# Altium footprint library attenuator_v2.PcbLib: 8 footprints
Each footprint in its own frame and in the unit in brackets; x right, y up, seen from the top. Pads: shape width x height; smd on the part's side, far side on the other; paste and mask are expansions set on the pad; w line width, h text height; cw(c..) or ccw(c..) is an arc to the next point about the centre after c.
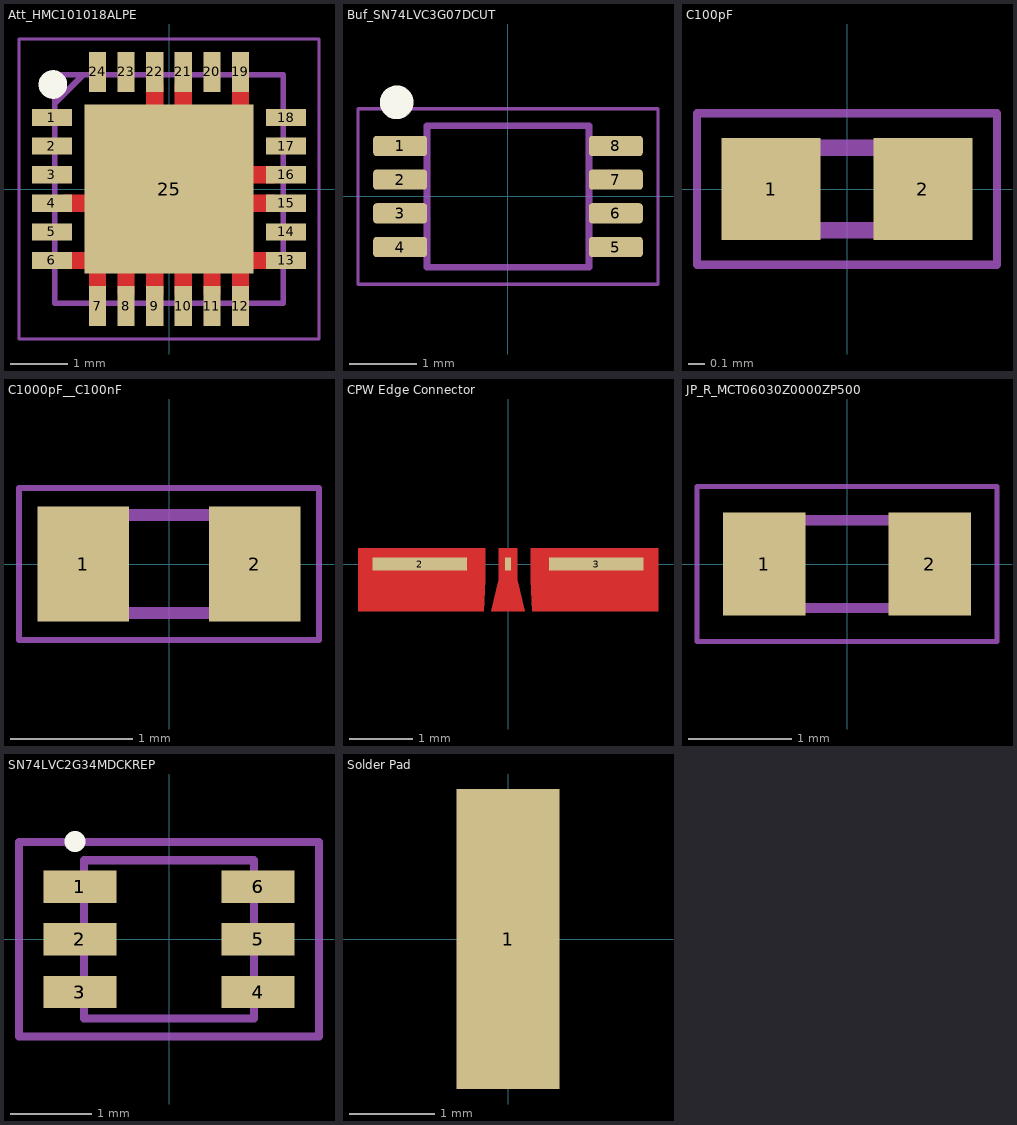
[diagram p0: the footprints below, top view; thin cyan lines are the x and y axes]

## Att_HMC101018ALPE [mm]
pads (25):
  rect 0.7x0.3 smd: 1(-2.05,1.25) 2(-2.05,0.75) 3(-2.05,0.25) 4(-2.05,-0.25) 5(-2.05,-0.75) 6(-2.05,-1.25) 13(2.05,-1.25) 14(2.05,-0.75) 15(2.05,-0.25) 16(2.05,0.25) 17(2.05,0.75) 18(2.05,1.25)
  rect 0.3x0.7 smd: 7(-1.25,-2.05) 8(-0.75,-2.05) 9(-0.25,-2.05) 10(0.25,-2.05) 11(0.75,-2.05) 12(1.25,-2.05) 19(1.25,2.05) 20(0.75,2.05) 21(0.25,2.05) 22(-0.25,2.05) 23(-0.75,2.05) 24(-1.25,2.05)
  rect 2.95x2.95 smd: 25(0,0)
Top Layer:
  rectangle: -1.85,-1.4 -1.35,-1.1
  rectangle: 1.35,0.1 1.85,0.4
  region: 1.4,1.35 1.4,1.85 1.1,1.85 1.1,1.35
  rectangle: 1.35,-1.4 1.85,-1.1
  region: -0.6,-1.85 -0.6,-1.35 -0.9,-1.35 -0.9,-1.85
  region: -0.1,1.35 -0.1,1.85 -0.4,1.85 -0.4,1.35
  region: 0.4,1.35 0.4,1.85 0.1,1.85 0.1,1.35
  region: 1.4,-1.85 1.4,-1.35 1.1,-1.35 1.1,-1.85
  region: 0.9,-1.85 0.9,-1.35 0.6,-1.35 0.6,-1.85
  region: 0.4,-1.85 0.4,-1.35 0.1,-1.35 0.1,-1.85
  region: -0.1,-1.85 -0.1,-1.35 -0.4,-1.35 -0.4,-1.85
  region: -1.1,-1.85 -1.1,-1.35 -1.4,-1.35 -1.4,-1.85
  rectangle: 1.35,-0.4 1.85,-0.1
  rectangle: -1.85,-0.4 -1.35,-0.1
Top Overlay:
  circle w0.25: c-2.032,1.829 r0.125
Top Assembly:
  lines w0.05: -2.625,-2.625 2.625,-2.625 2.625,2.625 -2.625,2.625 -2.625,-2.625
  lines w0.1: -2,1.5 -1.5,2 ; -2,-2 2,-2 2,2 -2,2 -2,-2
  text ".Designator" at -3.997,-0.28 h0.8
3D body "HMC1018ALP4E.stp": height 1, standoff 0, extent -2.05,-2.05 2.05,2.05

## Buf_SN74LVC3G07DCUT [mm] "SOP, 8-Leads, Body 2.4x2.1mm, Pitch 0.5mm, IPC Medium Density"
height 0.9
pads (8):
  rrect33% 0.8x0.3 smd: 1(-1.6,0.75) 2(-1.6,0.25) 3(-1.6,-0.25) 4(-1.6,-0.75) 5(1.6,-0.75) 6(1.6,-0.25) 7(1.6,0.25) 8(1.6,0.75)
Top Overlay:
  circle w0.25: c-1.651,1.397 r0.125
Top Assembly:
  lines w0.05: -2.225,-1.3 -2.225,1.3 2.225,1.3 2.225,-1.3 -2.225,-1.3
  lines w0.1: -1.2,-1.05 -1.2,1.05 1.2,1.05 1.2,-1.05 -1.2,-1.05
  text ".Designator" at -2.54,-0.127 h0.5
3D body "DCU0008A.stp": height 0.9, standoff 0, extent -1.561,-1 1.561,1

## C100pF [mm]
pads (2):
  rect 0.6x0.62 smd: 1(-0.46,0) 2(0.46,0)
Top Assembly:
  lines w0.05: -0.91,-0.46 -0.91,0.46 0.91,0.46 0.91,-0.46 -0.91,-0.46
  lines w0.1: -0.5,-0.25 -0.5,0.25 0.5,0.25 0.5,-0.25 -0.5,-0.25
  text ".Designator" at -1.999,-0.133 h0.4
3D body "C100pF.stp": height 0.55, standoff 0, extent -0.5,-0.25 0.5,0.25

## C1000pF__C100nF [mm]
pads (2):
  rect 0.75x0.94 smd: 1(-0.7,0) 2(0.7,0)
Top Assembly:
  lines w0.05: -1.225,-0.62 -1.225,0.62 1.225,0.62 1.225,-0.62 -1.225,-0.62
  lines w0.1: -0.8,-0.4 -0.8,0.4 0.8,0.4 0.8,-0.4 -0.8,-0.4
  text ".Designator" at -2.499,-0.167 h0.5
3D body "C1000pF.stp": height 0.9, standoff 0, extent -0.8,-0.4 0.8,0.4

## CPW Edge Connector [mm]
pads (3):
  rect 0.1x0.2 smd paste-2539.97: 1(0,0)
  rect 1.5x0.2 smd paste-2539.97: 2(-1.4,0) 3(1.4,0)
Top Layer:
  region: -2.383,0.25 -0.361,0.25 -0.361,-0.25 -0.383,-0.75 -2.383,-0.75
  region: -0.15,0.25 0.15,0.25 0.15,-0.25 0.269,-0.75 -0.269,-0.75 -0.15,-0.25
  region: 2.383,0.25 0.361,0.25 0.361,-0.25 0.383,-0.75 2.383,-0.75

## JP_R_MCT06030Z0000ZP500 [mm]
pads (2):
  rect 0.8x1 smd: 1(-0.8,0) 2(0.8,0)
Top Assembly:
  lines w0.05: -1.451,-0.75 -1.451,0.75 1.449,0.75 1.449,-0.75 -1.451,-0.75
  lines w0.1: -0.775,-0.426 -0.775,0.424 0.775,0.424 0.775,-0.426 -0.775,-0.426
  text ".Designator" at -2,-0.133 h0.4
3D body "JP_small_MCT06030Z0000ZP500.stp": height 0.46, standoff 0.01, extent -0.772,-0.426 0.778,0.424

## SN74LVC2G34MDCKREP [mm]
pads (12):
  rect 0.9x0.4 smd: 1(-1.1,0.65) 2(-1.1,0) 3(-1.1,-0.65) 4(1.1,-0.65) 5(1.1,0) 6(1.1,0.65)
  rect 0.9x0.4 on Top Paste: 1(-1.1,0.65) 2(-1.1,0) 3(-1.1,-0.65) 4(1.1,-0.65) 5(1.1,0) 6(1.1,0.65)
Top Overlay:
  circle w0.254: c-1.161,1.205 r0.003
Top Assembly:
  lines w0.1: -1.85,-1.2 -1.85,1.2 1.85,1.2 1.85,-1.2 -1.85,-1.2 ; -1.05,-0.975 -1.05,0.975 1.05,0.975 1.05,0.487 1.05,-0.487 1.05,-0.975 -1.05,-0.975
  text ".Designator" at -3.384,-0.238 h0.7
3D body "B_SN74LVC2G34MDCKREP .stp": height 1, standoff 0, extent -1.05,-1 1.05,1

## Solder Pad [mm]
pads (1):
  rect 1.2x3.5 smd paste-2539.97: 1(0,0)
Top Assembly:
  text ".Designator" at 0.233,-3.499 h0.7